# EAGLE library part GRISP-BASE (library m_som)
GRiSP-base https://grisp.org The GRiSP-Base board How much can you fit on a board that fits in your hand? Quite a lot, actually… CPU Atmel SAM V71 (SAMV71Q21ES3) Core: ARM Cortex M7 Running at up to 300MHz Single- and double-precision hardware Floating Point Unit (FPU) Internal memory Flash: 2048 Kbytes (used for Bootloader) SRAM: 384 Kbytes External memory SDRAM: 64 MBytes MicroSD Socket for standard MicroSD cards EEPROM: 2 KBit Network 802.11b/g/n WLAN User Interface Two RGB LEDs 5 DIP switches Reset Key I/O Dallas 1-Wire via 3-pin connector Digilent Pmod compatible I2C interface Two Digilent Pmod Type 1 interfaces (GPIO) One Digilent Pmod Type 2 interface (SPI) One Digilent Pmod Type 2A interface (expanded SPI with interrupts) One Digilent Pmod Type 4 interface (UART) Debug & Supply Serial port via Micro USB for console (Erlang Shell connects to this) On-board JTAG debugger <http://www.corelis.com/education/What-Is-JTAG.htm> via Micro USB JTAG / Trace connection for connecting external debuggers Supply via Micro USB connector Only one USB cable needed for power, console and on-board JTAG Based on GRiSP base ver. 1.2 Use Sullins PRPC006SBCN-M71RC <https://octopart.com/search?q=PRPC006SBCN-M71RC> or equivalent for right angle breakaway headers. Use 4× Würth 9774025151R <https://octopart.com/search?q=9774025151R> WA-SMSI SMT Steel Spacer, M2.5 Thread for board attachment. Added 2018-07-25
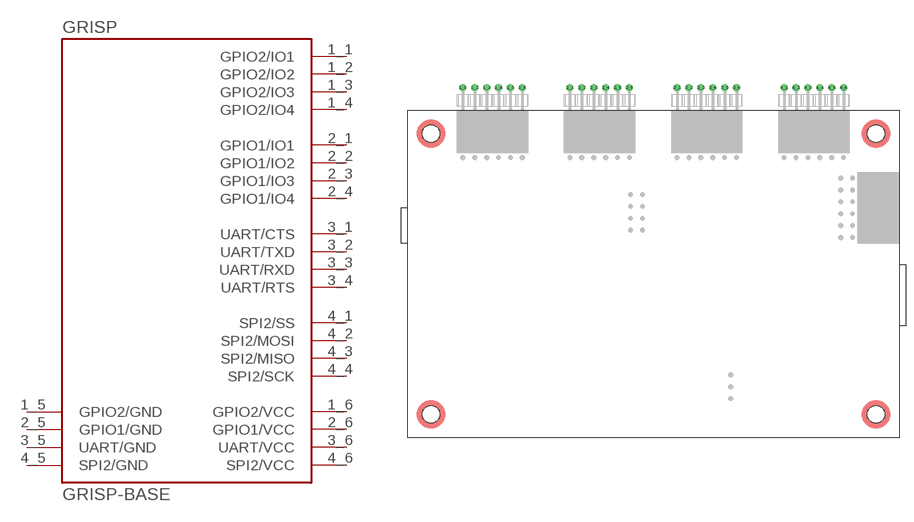
[diagram p2: symbol with the pads of GRISP-BASE; footprint GRISP-BASE]

Designator prefix GRISP

## GRISP-BASE1.2 (MANUF: Peer Stritzinger GmbH; PARTNUM: GRiSP-base; VALUE: GRiSP-base)  [GRISP-BASE]
1_1  GPIO2/IO1  pas
1_2  GPIO2/IO2  pas
1_3  GPIO2/IO3  pas
1_4  GPIO2/IO4  pas
1_5  GPIO2/GND  pas
1_6  GPIO2/VCC  pas
2_1  GPIO1/IO1  pas
2_2  GPIO1/IO2  pas
2_3  GPIO1/IO3  pas
2_4  GPIO1/IO4  pas
2_5  GPIO1/GND  pas
2_6  GPIO1/VCC  pas
3_1  UART/CTS  pas
3_2  UART/TXD  pas
3_3  UART/RXD  pas
3_4  UART/RTS  pas
3_5  UART/GND  pas
3_6  UART/VCC  pas
4_1  SPI2/SS  pas
4_2  SPI2/MOSI  pas
4_3  SPI2/MISO  pas
4_4  SPI2/SCK  pas
4_5  SPI2/GND  pas
4_6  SPI2/VCC  pas

## Footprint GRISP-BASE (pad centres in mm)
GRiSP-base PCB Based on GRiSP base ver. 1.2 Use Sullins PRPC006SBCN-M71RC <https://octopart.com/search?q=PRPC006SBCN-M71RC> or equivalent for right angle breakaway headers. Use 4× Würth 9774025151R <https://octopart.com/search?q=9774025151R> WA-SMSI SMT Steel Spacer, M2.5 Thread for board attachment.
drill 1.016: 1_1 -40.7,39.85; 1_2 -38.16,39.85; 1_3 -35.62,39.85; 1_4 -33.08,39.85; 1_5 -30.54,39.85; 1_6 -28,39.85; 2_1 -17.84,39.85; 2_2 -15.3,39.85; 2_3 -12.76,39.85; 2_4 -10.22,39.85; 2_5 -7.68,39.85; 2_6 -5.14,39.85; 3_1 5.02,39.85; 3_2 7.56,39.85; 3_3 10.1,39.85; 3_4 12.64,39.85; 3_5 15.18,39.85; 3_6 17.72,39.85; 4_1 27.88,39.85; 4_2 30.42,39.85; 4_3 32.96,39.85; 4_4 35.5,39.85; 4_5 38.04,39.85; 4_6 40.58,39.85
hole 3.7 at -47.5,30
hole 3.7 at 47.5,30
hole 3.7 at -47.5,-30
hole 3.7 at 47.5,-30